# Altium footprint library MISC.PcbLib: 2 footprints
Each footprint in its own frame and in the unit in brackets; x right, y up, seen from the top. Pads: shape width x height; smd on the part's side, far side on the other; paste and mask are expansions set on the pad; w line width, h text height; cw(c..) or ccw(c..) is an arc to the next point about the centre after c.
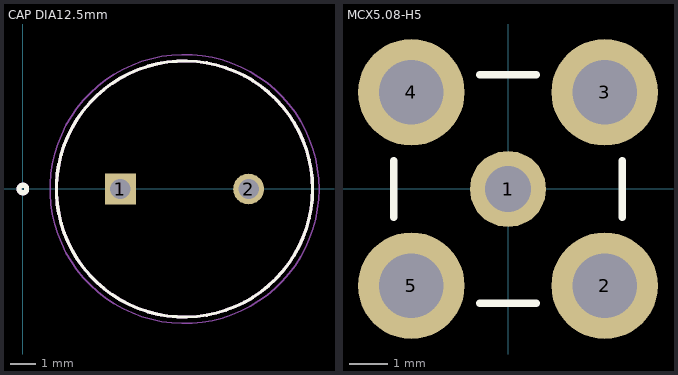
[diagram p0: the footprints below, top view; thin cyan lines are the x and y axes]

## CAP DIA12.5mm [mm] "Polarized Aluminum Electrolytic Capacitors, through hole, diameter 12.5mm"
height 21.5
pads (2):
  rect 1.2x1.2 hole 0.8: 1(3.819,-0.012)
  round 1.2 hole 0.8: 2(8.819,-0.012)
Top Overlay:
  circle w0.127: c6.319,-0.012 r5
  circle w0.2: c0.007,-0.012 r0.15
  circle w0.2: c0.007,-0.012 r0.15
Mechanical 13:
  circle w0.127: c6.319,-0.012 r5
  circle w0.2: c0.007,-0.012 r0.15
  circle w0.127: c6.319,-0.012 r5
  circle w0.2: c0.007,-0.012 r0.15
Mechanical 15:
  circle w0.05: c6.319,-0.012 r5.25

## MCX5.08-H5 [mm] "Coaxial, through hole, straight."
pads (5):
  round 2 hole 1.2: 1(-0.002,-0.009)
  round 2.8 hole 1.7: 2(2.538,-2.549) 3(2.538,2.531) 4(-2.542,2.531) 5(-2.542,-2.549)
Top Overlay:
  lines w0.2: -3.002,-0.749 -3.002,0.731 ; -0.742,-3.009 0.738,-3.009 ; -0.742,2.991 0.738,2.991 ; 2.998,-0.749 2.998,0.731
3D body "MCX5.08-H5.stp": height 13.5, standoff 0, extent -3.202,-3.209 3.198,3.191